# Altium schematic symbol library Tom_van_Rijn_Schlib.SchLib: 15 symbols
Pins are listed as number, name and electrical type; pins without a type are passive.

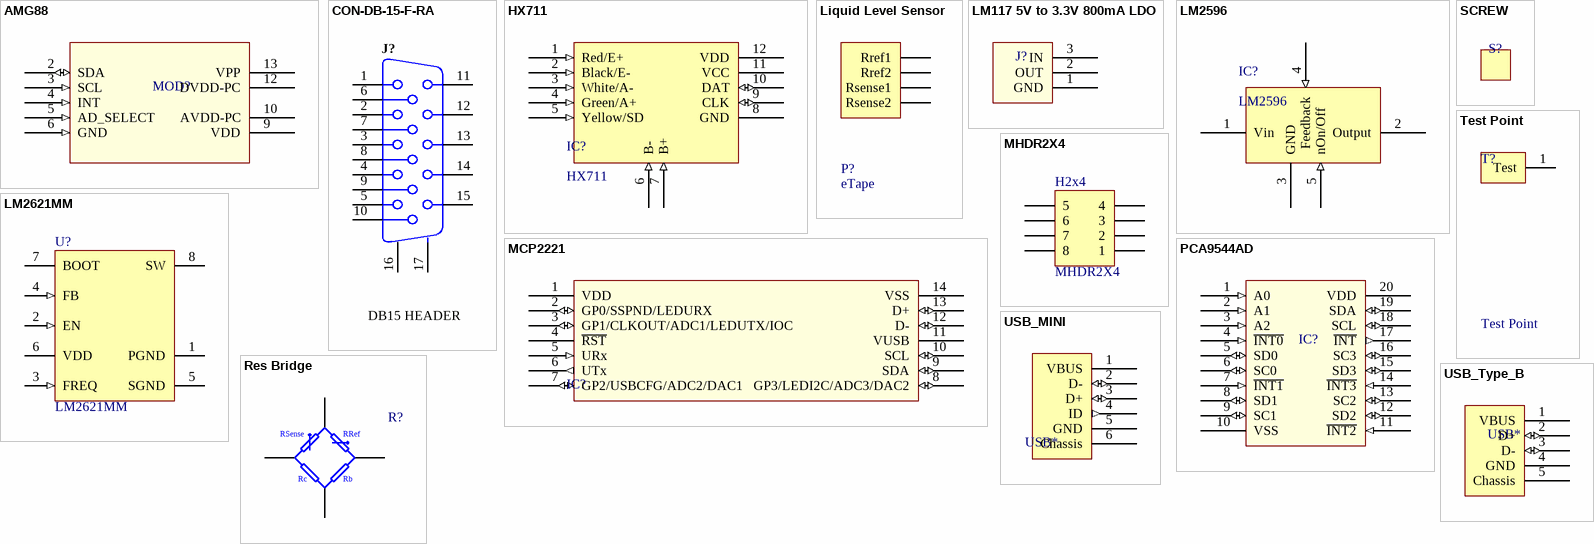
[diagram p0: symbols AMG88 to USB_Type_B]

## AMG88
designator MOD?, comment IR Sensor  (value not drawn)
8x8 IR Sensor - Grid Eye - Panasonic - I2C
footprint AMG88 (8x8 IR Sensor - Grid Eye - Panasonic)
pins: 2 SDA (io) "I2C Serial DAta", 3 SCL (in) "I2C Serial Clock", 4 INT (in) "I2C Interrupt. Normally on VDD, when interrupting pulled to GND.", 5 AD_SELECT (in) "Address Selection. Connect to GND for 1101000, VDD for 1101001", 6 GND (in) "Chassis", 9 VDD (power), 10 AVDD-PC (power), 12 DVDD-PC (power), 13 VPP (power)

## CON-DB-15-F-RA
designator J?, comment DB15 HEADER
Connector, DB15 Right-Angle Female (Analog RGB Video)/Blue; Max Current: mA; Category: Connector; Connector type: Header; Mounting Technology: Through-Hole; Status: Production
footprint DB15-VGA-Female
pins: 1 "Red Video", 2 "Green Video", 3 "Blue Video", 4 "Monitor ID Bit 2 (Ground)", 5 (power) "Ground", 6 (power) "Red Return (Ground)", 7 (power) "Green Return (Ground)", 8 (power) "Blue Return (Ground)", 9 "Key (not used)", 10 (power) "Sync Return (Ground)", 11 (power) "Monitor ID Bit 0 (Ground)", 12 "Monitor ID Bit 1 (Not Used)", 13 "Horizontal Zync", 14 "Vertical Sync", 15 "Vertical Sync", 16 MH1 "shield", 17 MH2 "shield"

## HX711
designator IC?
24-bit ADC with Serial Out
pins: 1 Red/E+ (in), 2 Black/E- (in), 3 White/A- (in), 4 Green/A+ (in), 5 Yellow/SD (in) "Shield", 6 B- (in), 7 B+ (in), 8 GND (power), 9 CLK (io), 10 DAT (io), 11 VCC (power), 12 VDD (power)

## Liquid Level Sensor
designator P?, comment eTape
eTape Level Sensor; LatestRevisionDate: 17-Jul-2002; LatestRevisionNote: Re-released for DXP Platform.; Publisher: Altium Limited
footprint HDR1X4 (Connector; Header; 4 Position)
signal-integrity model Connector
pins: 1 Rref1, 2 Rref2, 3 Rsense1, 4 Rsense2

## LM117 5V to 3.3V 800mA LDO
designator J?  (value not drawn)
LM117 5V to 3.3V 800mA LDO
footprint SOT223 (SOT223 /SC-73)
pins: 1 GND (power), 2 OUT (power), 3 IN (power)

## LM2596
designator IC?
Simple Switcher Power Converter 150kHz
pins: 1 Vin (power), 2 Output (power), 3 GND (power), 4 Feedback (in), 5 nOn/Off (in)

## LM2621MM
designator U?
Low Input Voltage, Step-Up DC-DC; Manufacturer: National Semiconductor; CompType: Switcher; PackageTopMarking: ZXTT*S06A; PowerWise: N; FirstPublished: 4-Dec-2008; DatasheetVersion: Mar-2005; PackageVersion: revF, Apr-2008; PackageReference: MUA08A; Publisher: Altium Limited; PackageDescription: MINI SOIC, .118 x .118 x .034in, 8 Lead, .0256in Pitch; PartNumber: LM2621MM; RoHS: O; PinCount: 8; DigiKeyPartNumber: LM2621MMCT-ND; Code_JEDEC: MO-187-AA; ComponentLink1Description: LM2621 Datasheet; ComponentLink1URL: http://www.national.com/ds/LM/LM2621.pdf; ComponentLink2Description: LM2621 Web Page; ComponentLink2URL: http://www.national.com/pf/LM/LM2621.html; ComponentLink3Description: MUA08A Package Page; ComponentLink3URL: http://www.national.com/packaging/folders/mua08a.html
footprint IC-MSOP-8 (TSOP, 8-Leads, Body 3x3mm, Pitch 0.65mm)
footprint MUA08A_L (TSOP, 8-Leads, Body 3x3mm, Pitch 0.65mm, IPC High Density)
footprint MUA08A_M (TSOP, 8-Leads, Body 3x3mm, Pitch 0.65mm, IPC Low Density)
pins: 1 PGND (power), 2 EN (in), 3 FREQ (in), 4 FB (in), 5 SGND (power), 6 VDD (power), 7 BOOT, 8 SW (power)

## MCP2221
designator IC?  (value not drawn)
USB to I2C Master + GPIO
footprint IC-SOIC-16 (SOIC Narrow, 16-Leads, Body 9.9x3.9mm, Pitch 1.27mm)
pins: 1 VDD (power) "Supply Voltage", 2 GP0/SSPND/LEDURX (io) "General-purpose I/O or alternate function pin", 3 GP1/CLKOUT/ADC1/LEDUTX/IOC (io) "General-purpose I/O or alternate function pin", 4 ~{RST} (power), 5 URx (in) "UART RX pin (input)", 6 UTx (out) "UART TX pin (output)", 7 GP2/USBCFG/ADC2/DAC1 (io) "General-purpose I/O or alternate function pin", 8 GP3/LEDI2C/ADC3/DAC2 (io) "General-purpose I/O or alternate function pin", 9 SDA (io), 10 SCL (io), 11 VUSB (power) "USB Power pin (internally connected to 3.3V)  Should be locally bypassed with a high-quality ceramic capacitor", 12 D- (io) "USB D-", 13 D+ (io) "USB D+", 14 VSS (power) "Ground"

## MHDR2X4
designator H2x4
Header, 4-Pin, Dual row; LatestRevisionDate: 17-Jul-2002; LatestRevisionNote: Re-released for DXP Platform.; Publisher: Altium Limited
footprint CONN-HDR-0.1-2x4 (Header, 8 way, 100 mil pitch)
signal-integrity model Connector
pins: 1, 2, 3, 4, 5, 6, 7, 8

## PCA9544AD
designator IC?  (value not drawn)
4-channel I2C-bus multiplexer with interrupt logic, Operating power supply voltage range of 2.3 V to 5.5 V
footprint SOIC20 (SOIC 20 pin, Wb=7,6mm, Wl=10,3mm, L=12,8mm, H=2,3mm, P=1,27)
pins: 1 A0 (in) "Address Input 0", 2 A1 (in) "Address Input 1", 3 A2 (in) "Address Input 2", 4 ~{INT0} (in) "Active LOW interrupt input 0", 5 SD0 (io) "Serial Data 0", 6 SC0 (io) "Serial Clock 0", 7 ~{INT1} (in) "Active LOW Interrupt Input 1", 8 SD1 (io) "Serial Data 1", 9 SC1 (io) "Serial Clock 1", 10 VSS (power) "Supply Ground", 11 ~{INT2} (in) "Active LOW Interrupt Input 2", 12 SD2 (io) "Serial Data 2", 13 SC2 (io) "Serial Clock 2", 14 ~{INT3} (in) "Active LOW Interrupt Input 3", 15 SD3 (io) "Serial Data 3", 16 SC3 (io) "Serial Clock 3", 17 ~{INT} (out) "Serial Clock 0", 18 SCL (io) "Serial Clock Line", 19 SDA (io) "Serial Clock Line", 20 VDD (power) "Supply Voltage - 2.3V-5.5V"

## Res Bridge
designator R?
Resistor Bridge; Published: 24-Mar-1999; LatestRevisionDate: 17-Jul-2002; LatestRevisionNote: Re-released for DXP Platform.; PackageReference: P04A; Publisher: Altium Limited
footprint P04A (TO, Thru-Hole, Vertical, Heatsink Mounted; 4 In-Line Leads; Pitch 2.54 mm)
signal-integrity model Res Bridge
pins: 1, 2, 3, 4
text: RSense; RRef; Rc; Rb

## SCREW
designator S?  (value not drawn)
Screw to add to schematics in order for them not to be removed from PCB
footprint MECH-SCREW-M2.3 (Screw M2.3)

## Test Point
designator T?
footprint Test Point BLACK (Test Point Keystone BLACK 5001)
pins: 1 Test (power)

## USB_MINI
designator USB*, comment USB Mini  (value not drawn)
USB Mini Connector, Pins 5 through 9 internally connected (GND)
footprint CONN-USB-MINI (Connector, USB, B type, Mini)
pins: 1 VBUS (power) "VBUS 5V", 2 D- (io) "Data -", 3 D+ (io) "Data -", 4 ID (out) "Host: GND, Device: NC", 5 GND (power) "Signal Ground", 6 Chassis (power) "Signal Ground"

## USB_Type_B
designator USB*, comment USB Type B  (value not drawn)
USB Mini Connector, Pins 5 through 9 internally connected (GND)
footprint CONN-USB-B (USB Connector, B Termination, Horizontal)
pins: 1 VBUS (power) "VBUS 5V", 2 D+ (io) "Data -", 3 D- (io) "Data -", 4 GND (power) "Signal Ground", 5 Chassis (power) "Signal Ground"